# Altium schematic symbol library amplifier.SCHLIB: 59 symbols
Pins are listed as number, name and electrical type; pins without a type are passive.

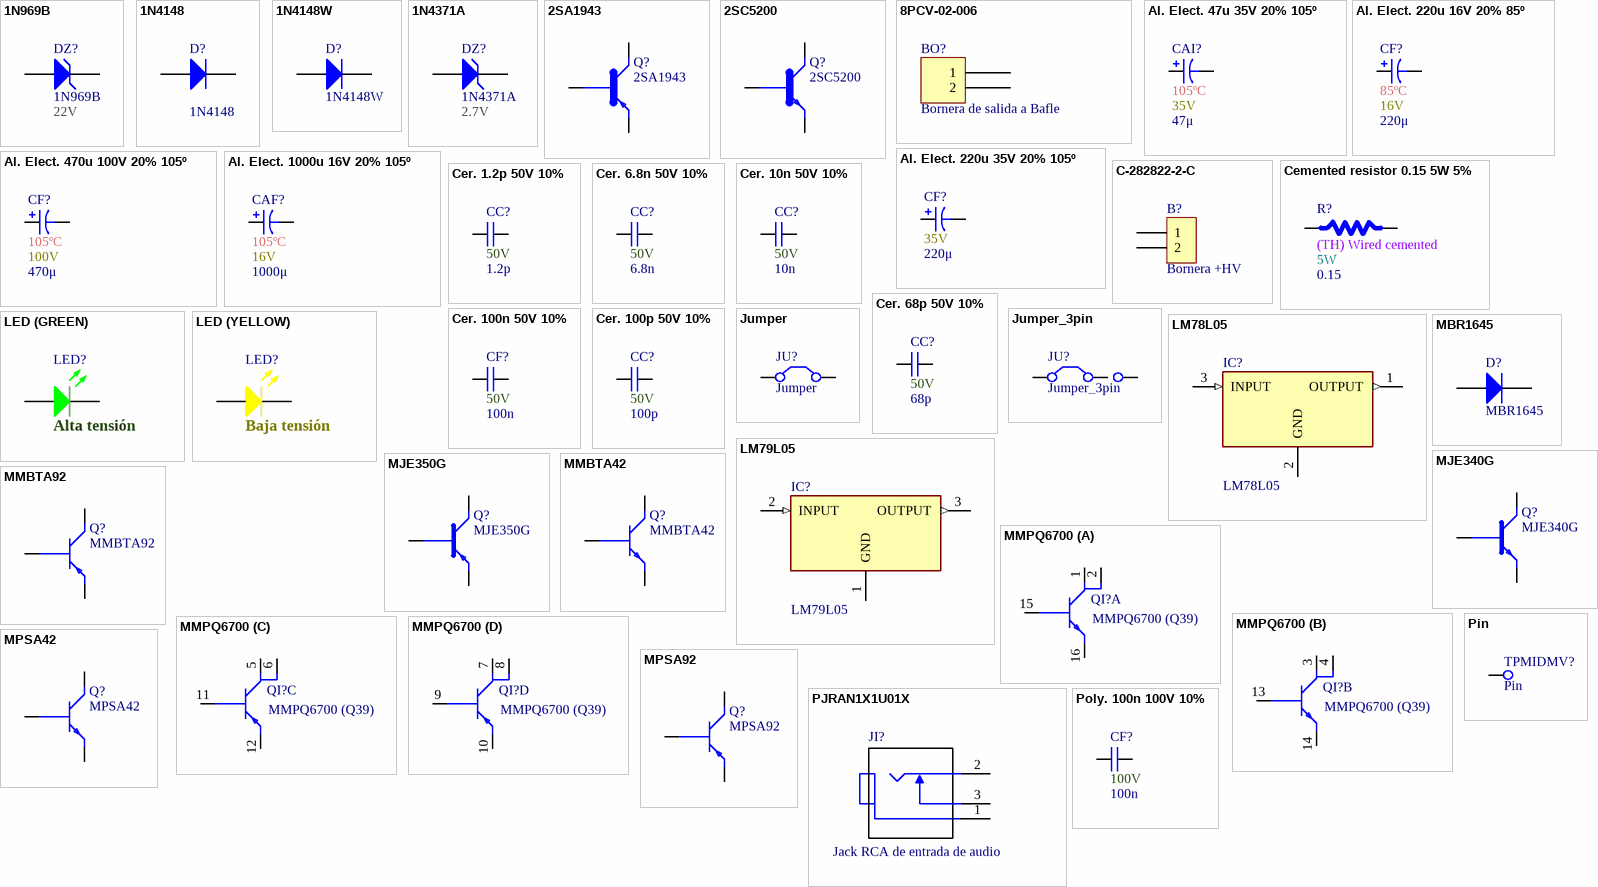
[diagram p0: symbols 1N969B to Poly. 100n 100V 10%]

## 1N969B
designator DZ?  ZV: 22V
Zener Diode, 22V, 500mW; Manufacturer: Microsemi; IZT: 20mA; Published: 8-Jun-2000; LatestRevisionDate: 17-Jul-2002; LatestRevisionNote: Re-released for DXP Platform.; DatasheetDocument: 1997; PackageReference: DO-35; Publisher: Altium Limited; Code_JEDEC: DO-204-AH; ComponentLink2Description: Datasheet; ComponentLink2URL: https://www.microsemi.com/document-portal/doc_download/5906-1n746-759a-4370-4372a-datasheet; PartNumber: 1N969B; Power: 500mW; Supplier: *; Price: *; ComponentLink3Description: Microsemi product information; ComponentLink3URL: https://www.microsemi.com/existing-parts/parts/121290#resources
footprint DO-35-0.3mil (Diode, Axial; Body 3.8 x 1.9 mm (LxDia. max), Lead Dia. 0.53 mm (max))
pins: 1 A, 2 K

## 1N4148
designator D?
FAST SWITCHING DIODE; Manufacturer: ON Semiconductors; Power: 400mW; VR: 71V; IFM: 30mA; ComponentLink1Description: ON Semi. product information; ComponentLink1URL: https://www.onsemi.com/PowerSolutions/product.do?id=1N4148; ComponentLink2Description: Datasheet; ComponentLink2URL: https://www.onsemi.com/pub/Collateral/1N914A-D.pdf; Supplier: *; Price: *; PartNumber: 1N4148
footprint DO-35-0.3mil (Diode, Axial; Body 3.8 x 1.9 mm (LxDia. max), Lead Dia. 0.53 mm (max))
footprint DO-35-0.4mil (Diode, Axial; Body 3.8 x 1.9 mm (LxDia. max), Lead Dia. 0.53 mm (max))
pins: 1 K, 2 A

## 1N4148W
designator D?
SURFACE MOUNT FAST SWITCHING DIODE; Manufacturer: Diodes Incorporated; Power: 400mW; VR: 71V; IFM: 30mA; PartNumber: 1N4148W; ComponentLink1Description: DIODES INC. product information; ComponentLink1URL: https://www.diodes.com/products/discrete/diodes-and-rectifiers/diodes/small-signal-switching-diodes/part/1N4148W; ComponentLink2Description: Datasheet; ComponentLink2URL: https://www.diodes.com/assets/Datasheets/ds30086.pdf; Supplier: *; Price: *
footprint SOD-123 (SMD CASE SOD-123)
pins: 1 K, 2 A

## 1N4371A
designator DZ?  ZV: 2.7V
Zener Diode, 2.7V, 500mW; Manufacturer: Microsemi; IZT: 20mA; Published: 8-Jun-2000; LatestRevisionDate: 17-Jul-2002; LatestRevisionNote: Re-released for DXP Platform.; DatasheetDocument: 1997; PackageReference: DO-35; Publisher: Altium Limited; Code_JEDEC: DO-204-AH; ComponentLink2Description: Datasheet; ComponentLink2URL: https://www.microsemi.com/document-portal/doc_download/5906-1n746-759a-4370-4372a-datasheet; PartNumber: 1N4371A; Power: 500mW; Supplier: *; Price: *; ComponentLink3Description: Microsemi product information; ComponentLink3URL: https://www.microsemi.com/existing-parts/parts/121290#resources
footprint DO-35-0.3mil (Diode, Axial; Body 3.8 x 1.9 mm (LxDia. max), Lead Dia. 0.53 mm (max))
pins: 1 A, 2 K

## 2SA1943
designator Q?
Transistor GP BJT PNP 230V 15A 3-Pin_3+Tab_ TO-264 Tube; Manufacturer: Toshiba; Power: 150W; VCBO: -230V; IC: -15A; PartNumber: 2SA1943; Price: *; ComponentLink1Description: Toshiba product information; ComponentLink1URL: https://toshiba.semicon-storage.com/ap-en/product/bipolar-transistor/bipolar-transistor/detail.2SA1943.html; ComponentLink2Description: Datasheet; ComponentLink2URL: https://toshiba.semicon-storage.com/info/docget.jsp?did=20426&prodName=2SA1943; VCEO: -230V
footprint TO-264-3
pins: 1 B, 2 C, 3 E

## 2SC5200
designator Q?
Transistor GP BJT NPN 230V 15A 3-Pin_3+Tab_ TO-264 Tube; Manufacturer: Toshiba; Power: 150W; Price: *; PartNumber: 2SC5200; ComponentLink1Description: Toshiba product information; ComponentLink1URL: https://toshiba.semicon-storage.com/ap-en/product/bipolar-transistor/bipolar-transistor/detail.2SC5200.html; ComponentLink2Description: Datasheet; ComponentLink2URL: https://toshiba.semicon-storage.com/info/docget.jsp?did=20668&prodName=2SC5200; IC: 15A; VCEO: 230V; VCBO: 230V
footprint TO-264-3
pins: 1 B, 2 C, 3 E

## 8PCV-02-006
designator BO?, comment Bornera de salida a Bafle
TE Barrier Terminal Block, 2P; Current: 30A; Voltage: 600V
footprint TE 8PCV-02-006 (Assembly, Dual Barrier Strip)
pins: 1, 2

## Al. Elect. 47u 35V 20% 105º
designator CAI?  value 47μ  Temperature: 105ºC  Voltage: 35V  (hidden comment: Al. Elect. 47u 35V 20% 105º)
Aluminum Electrolytic Capacitor 47μF 35V 20% 105º; Application: Medium and high voltage type range from 160V-450V used as primary side input filter in power supply, which can be used in general switching power supply, PC power supply and industrial computer power supply,server power supply, AC-DC converter, motor drive circuit DC storage filter, digital audio, digital TV, communication base station, DC-AC inverter, inverter power supply and converters etc; Characteristics: Aluminum Electrolytic Capacitor; Tolerance: 20%; Price: *; Supplier: *; Power: *
footprint Al. Electrolytic 6.3mmx11.0mmx2.5mm (Polarized capacitors, Aluminum Electrolytic Capacitors, 2-Leads, Body 6.3mmx11.0mmx2.5mm)
footprint Al. Electrolytic 6.3mmx11.0mmx2.5mm-CLEAN (Polarized capacitors, Aluminum Electrolytic Capacitors, 2-Leads, Body 6.3mmx11.0mmx2.5mm)
pins: 1, 2

## Al. Elect. 220u 16V 20% 85º
designator CF?  value 220μ  Temperature: 85ºC  Voltage: 16V  (hidden comment: Al. Elect. 220u 16V 20% 85º)
Aluminum Electrolytic Capacitor 220μF 16V 20% 85º; Application: Medium and high voltage type range from 160V-450V used as primary side input filter in power supply, which can be used in general switching power supply, PC power supply and industrial computer power supply,server power supply, AC-DC converter, motor drive circuit DC storage filter, digital audio, digital TV, communication base station, DC-AC inverter, inverter power supply and converters etc; Characteristics: Aluminum Electrolytic Capacitor; Tolerance: 20%; Price: *; Supplier: *; Power: *
footprint Al. Electrolytic 6.3mmx12.0mmx2.5mm-CLEAN (Polarized capacitors, Aluminum Electrolytic Capacitors, 2-Leads, Body 6.3mmx11.0mmx2.5mm)
pins: 1, 2

## Al. Elect. 220u 35V 20% 105º
designator CF?  value 220μ  Voltage: 35V  (hidden comment: Al. Elect. 220u 35V 20% 105º)
Aluminum Electrolytic Capacitor 220μF 35V 20% 105º; Application: Medium and high voltage type range from 160V-450V used as primary side input filter in power supply, which can be used in general switching power supply, PC power supply and industrial computer power supply,server power supply, AC-DC converter, motor drive circuit DC storage filter, digital audio, digital TV, communication base station, DC-AC inverter, inverter power supply and converters etc; Characteristics: Aluminum Electrolytic Capacitor; Tolerance: 20%; Price: *; Supplier: *; Power: *; Temperature: 105ºC
footprint Al. Electrolytic 8.0mmx13.0mmx3.5mm-CLEAN (Polarized capacitors, Aluminum Electrolytic Capacitors, 2-Leads, Body 8.0mmx13.0mmx3.5mm)
pins: 1, 2

## Al. Elect. 470u 100V 20% 105º
designator CF?  value 470μ  Temperature: 105ºC  Voltage: 100V  (hidden comment: Al. Elect. 470u 100V 20% 105º)
Aluminum Electrolytic Capacitor 470μF 100V 20% 105º; Application: Medium and high voltage type range from 160V-450V used as primary side input filter in power supply, which can be used in general switching power supply, PC power supply and industrial computer power supply,server power supply, AC-DC converter, motor drive circuit DC storage filter, digital audio, digital TV, communication base station, DC-AC inverter, inverter power supply and converters etc; Characteristics: Aluminum Electrolytic Capacitor; Tolerance: 20%; Price: *; Supplier: *; Power: *
footprint Al. Electrolytic 16.0mmx33.0mmx7.5mm-CLEAN (Polarized capacitors, Aluminum Electrolytic Capacitors, 2-Leads, Body 16.0mmx33.0mmx7.5mm)
pins: 1, 2

## Al. Elect. 1000u 16V 20% 105º
designator CAF?  value 1000μ  Temperature: 105ºC  Voltage: 16V  (hidden comment: Al. Elect. 1000u 16V 20% 105º)
Aluminum Electrolytic Capacitor 1000μF 16V 20% 105º; Application: Medium and high voltage type range from 160V-450V used as primary side input filter in power supply, which can be used in general switching power supply, PC power supply and industrial computer power supply,server power supply, AC-DC converter, motor drive circuit DC storage filter, digital audio, digital TV, communication base station, DC-AC inverter, inverter power supply and converters etc; Characteristics: Aluminum Electrolytic Capacitor; Tolerance: 20%; Price: *; Supplier: *; Power: *
footprint Al. Electrolytic 10.0mmx17.0mmx5.0mm-CLEAN (Polarized capacitors, Aluminum Electrolytic Capacitors, 2-Leads, Body 10.0mmx17.0mmx5.0mm)
pins: 1, 2

## C-282822-2-C
designator B?, comment Bornera +HV
TERMI-BLOK HEADER,ASSY90 2P - serie 282822 - 5.00mm; Manufacturer: TE Connectivity; partNo: C-282822-2-C; ComponentLink1 Description: Manufacturer; ComponentLink2 Description: Datasheet; NoPins: 02; Created Date: 6 MArch 2017; ComponentLink1URL: http://www.te.com/usa-en/home.html; ComponentLink2URL: http://www.te.com/usa-en/product-282822-2.html
footprint TE-C-282822-2-C-PLUGGED (5.00mm - Open Vertical PCB Header - 02p)
footprint TE-C-282822-2-C (5.00mm - Open Vertical PCB Header - 02p)
pins: 1 (power), 2

## Cemented resistor 0.15 5W 5%
designator R?  value 0.15  Type: (TH) Wired cemented  Power: 5W  (hidden comment: Cemented resistor 0.15 5W 5%)
Cemented resistor 0.15Ω 5% 5W; Tolerance: 5%; Supplier: *; Price: *
footprint Cemented resistor 0.15 5W 5% (Cemented resistor 0.15O 5% 5W)
footprint Cemented resistor generic 5W 5% (Cemented generic resistor 5% 5W)
pins: 1, 2

## Cer. 1.2p 50V 10%
designator CC?  value 1.2p  Voltage: 50V  (hidden comment: Cer. 1.2p 50V 10%)
Ceramic Capacitor 1.2pF 50V 10%; Application: Medium and high voltage type range from 160V-450V used as primary side input filter in power supply, which can be used in general switching power supply, PC power supply and industrial computer power supply,server power supply, AC-DC converter, motor drive circuit DC storage filter, digital audio, digital TV, communication base station, DC-AC inverter, inverter power supply and converters etc; Characteristics: Ceramic Capacitor; Tolerance: 10%; Price: *; Power: *; Supplier: *
footprint Cer. pitch 5.0mm height 5.0mm (Radial ceramic capacitor pitch 5.0mm height 5.0mm)
footprint Cer. pitch 2.5mm height 5.0mm (Radial ceramic capacitor pitch 2.5mm height 5.0mm)
footprint Cer. pitch 5.0mm height 5.5mm (Radial ceramic capacitor pitch 5.0mm height 5.5mm)
footprint Cer. pitch 5.08mm height 6.00mm (Radial ceramic capacitor pitch 5.08mm height 6.0mm)
pins: 1, 2

## Cer. 6.8n 50V 10%
designator CC?  value 6.8n  Voltage: 50V  (hidden comment: Cer. 6.8n 50V 10%)
Ceramic Capacitor 6.8nF 50V 10%; Application: Medium and high voltage type range from 160V-450V used as primary side input filter in power supply, which can be used in general switching power supply, PC power supply and industrial computer power supply,server power supply, AC-DC converter, motor drive circuit DC storage filter, digital audio, digital TV, communication base station, DC-AC inverter, inverter power supply and converters etc; Characteristics: Ceramic Capacitor; Tolerance: 10%; Price: *; Power: *; Supplier: *
footprint Cer. pitch 5.0mm height 5.0mm (Radial ceramic capacitor pitch 5.0mm height 5.0mm)
footprint Cer. pitch 2.5mm height 5.0mm (Radial ceramic capacitor pitch 2.5mm height 5.0mm)
footprint Cer. pitch 5.0mm height 5.5mm (Radial ceramic capacitor pitch 5.0mm height 5.5mm)
footprint Cer. pitch 5.08mm height 6.00mm (Radial ceramic capacitor pitch 5.08mm height 6.0mm)
pins: 1, 2

## Cer. 10n 50V 10%
designator CC?  value 10n  Voltage: 50V  (hidden comment: Cer. 10n 50V 10%)
Ceramic Capacitor 10nF 50V 10%; Application: Medium and high voltage type range from 160V-450V used as primary side input filter in power supply, which can be used in general switching power supply, PC power supply and industrial computer power supply,server power supply, AC-DC converter, motor drive circuit DC storage filter, digital audio, digital TV, communication base station, DC-AC inverter, inverter power supply and converters etc; Characteristics: Ceramic Capacitor; Tolerance: 10%; Price: *; Power: *; Supplier: *
footprint Cer. pitch 5.0mm height 5.0mm (Radial ceramic capacitor pitch 5.0mm height 5.0mm)
footprint Cer. pitch 2.5mm height 5.0mm (Radial ceramic capacitor pitch 2.5mm height 5.0mm)
footprint Cer. pitch 5.0mm height 5.5mm (Radial ceramic capacitor pitch 5.0mm height 5.5mm)
footprint Cer. pitch 5.08mm height 6.00mm (Radial ceramic capacitor pitch 5.08mm height 6.0mm)
pins: 1, 2

## Cer. 68p 50V 10%
designator CC?  value 68p  Voltage: 50V  (hidden comment: Cer. 68p 50V 10%)
Ceramic Capacitor 68pF 50V 10%; Application: Medium and high voltage type range from 160V-450V used as primary side input filter in power supply, which can be used in general switching power supply, PC power supply and industrial computer power supply,server power supply, AC-DC converter, motor drive circuit DC storage filter, digital audio, digital TV, communication base station, DC-AC inverter, inverter power supply and converters etc; Characteristics: Ceramic Capacitor; Tolerance: 10%; Price: *; Power: *; Supplier: *
footprint Cer. pitch 5.0mm height 5.0mm (Radial ceramic capacitor pitch 5.0mm height 5.0mm)
footprint Cer. pitch 2.5mm height 5.0mm (Radial ceramic capacitor pitch 2.5mm height 5.0mm)
footprint Cer. pitch 5.0mm height 5.5mm (Radial ceramic capacitor pitch 5.0mm height 5.5mm)
footprint Cer. pitch 5.08mm height 6.00mm (Radial ceramic capacitor pitch 5.08mm height 6.0mm)
pins: 1, 2

## Cer. 100n 50V 10%
designator CF?  value 100n  Voltage: 50V  (hidden comment: Cer. 100n 50V 10%)
Ceramic Capacitor 100nF 50V 10%; Application: Medium and high voltage type range from 160V-450V used as primary side input filter in power supply, which can be used in general switching power supply, PC power supply and industrial computer power supply,server power supply, AC-DC converter, motor drive circuit DC storage filter, digital audio, digital TV, communication base station, DC-AC inverter, inverter power supply and converters etc; Characteristics: Ceramic Capacitor; Tolerance: 10%; Supplier: *; Price: *; Power: *
footprint Cer. pitch 5.0mm height 5.5mm (Radial ceramic capacitor pitch 5.0mm height 5.5mm)
footprint Cer. pitch 2.5mm height 5.0mm (Radial ceramic capacitor pitch 2.5mm height 5.0mm)
footprint Cer. pitch 5.08mm height 6.00mm (Radial ceramic capacitor pitch 5.08mm height 6.0mm)
pins: 1, 2

## Cer. 100p 50V 10%
designator CC?  value 100p  Voltage: 50V  (hidden comment: Cer. 100p 50V 10%)
Ceramic Capacitor 100pF 50V 10%; Application: Medium and high voltage type range from 160V-450V used as primary side input filter in power supply, which can be used in general switching power supply, PC power supply and industrial computer power supply,server power supply, AC-DC converter, motor drive circuit DC storage filter, digital audio, digital TV, communication base station, DC-AC inverter, inverter power supply and converters etc; Characteristics: Ceramic Capacitor; Tolerance: 10%; Price: *; Power: *; Supplier: *
footprint Cer. pitch 5.0mm height 5.0mm (Radial ceramic capacitor pitch 5.0mm height 5.0mm)
footprint Cer. pitch 2.5mm height 5.0mm (Radial ceramic capacitor pitch 2.5mm height 5.0mm)
footprint Cer. pitch 5.0mm height 5.5mm (Radial ceramic capacitor pitch 5.0mm height 5.5mm)
footprint Cer. pitch 5.08mm height 6.00mm (Radial ceramic capacitor pitch 5.08mm height 6.0mm)
pins: 1, 2

## Jumper
designator JU?
Jumper Wire; Published: 24-Mar-1999; LatestRevisionDate: 17-Jul-2002; LatestRevisionNote: Re-released for DXP Platform.; PackageReference: RAD-0.2; Publisher: Altium Limited; PackageDescription: Radial Cap, Thru-Hole; 2 Leads; 0.2 in Pin Spacing
footprint Jumper 200mil 2 pin header
footprint Jumper 200mil 2 pin
pins: 1 C1, 2 C2

## Jumper_3pin
designator JU?
Jumper Wire; Published: 24-Mar-1999; LatestRevisionDate: 17-Jul-2002; LatestRevisionNote: Re-released for DXP Platform.; PackageReference: RAD-0.2; Publisher: Altium Limited; PackageDescription: Radial Cap, Thru-Hole; 2 Leads; 0.2 in Pin Spacing
footprint Jumper 200mil 3 pin header
footprint Jumper 200mil 3 pin
pins: 1 C1, 2 C2, 3 C3

## LED (GREEN)
designator LED?, comment Alta tensión
Typical LED (GREEN); Publisher: Altium Limited
footprint LED_5MM_GREEN (LED 5mm GREEN)
footprint LED_3MM_GREEN (LED 3mm GREEN)
footprint 0805_LED
footprint 1206_LED
footprint SQ_LED
pins: A, K

## LED (YELLOW)
designator LED?, comment Baja tensión
Typical LED (YELLOW); Publisher: Altium Limited
footprint LED_5MM_YELLOW (LED 5mm YELLOW)
footprint LED_3MM_YELLOW (LED 3mm YELLOW)
footprint 0805_LED
footprint 1206_LED
footprint SQ_LED
pins: A, K

## LM78L05
designator IC?
5V fixed regulator - 100mA; Manufacturer_Part_Number: LM7805; Height: 4.7mm; Power: *; Price: *; Supplier: *
footprint TO-92-1 (TO, Flat Index; 3 In-Line, Axial Leads; Body Dia. 5mm; Leads 0.55 x 0.50 mm (max))
pins: 1 OUTPUT (out), 2 GND, 3 INPUT (in)

## LM79L05
designator IC?
-5V fixed regulator - 100mA; Manufacturer_Part_Number: LM7805; Height: 4.7mm; Power: *; Price: *; Supplier: *
footprint TO-92-1 (TO, Flat Index; 3 In-Line, Axial Leads; Body Dia. 5mm; Leads 0.55 x 0.50 mm (max))
footprint TO-92-2
pins: 1 GND, 2 INPUT (in), 3 OUTPUT (out)

## MBR1645
designator D?
45 V, 16 A SWITCHMODE(TM) Schottky Power Rectifier, 2-Pin TO-220, Pb-Free, Tube; Manufacturer_Name: ON Semiconductor; Manufacturer_Part_Number: MBR1645; ComponentLink1Description: Manufacturer URL; ComponentLink1URL: http://www.onsemi.com/; ComponentLink2Description: Datasheet; ComponentLink2URL: http://www.onsemi.com/pub_link/Collateral/MSR1560-D.PDF; ComponentLink3Description: Package Specification; ComponentLink3URL: http://www.onsemi.com/pub_link/Collateral/221B-04.PDF; Power: *; Price: *; Supplier: *
footprint ONSC-TO-220-2-221B-04 (FM, 2-Leads, Body 10.3x4.85mm, Pitch 5.08mm)
pins: 1 K, 3 A

## MJE340G
designator Q?
Plastic Medium-Power NPN Silicon Transistor, 300 VOLTS, 0.5 AMPERE, 20 WATTS; Manufacturer: ON Semiconductor; VCEO: 300V; IC: 500mA; Power: 20W; PartNumber: MJE340G; ComponentLink1Description: ON semiconductor product information; ComponentLink1URL: https://www.onsemi.com/PowerSolutions/product.do?id=MJE340G; ComponentLink2Description: Datasheet; ComponentLink2URL: https://www.onsemi.com/pub/Collateral/MJE340-D.PDF; Price: *; Supplier: *; VCB: 300V
footprint TO-225 (TO-225 FULL PACKAGE)
pins: 1 E, 2 C, 3 B

## MJE350G
designator Q?
Plastic Medium-Power PNP Silicon Transistor, 300 VOLTS, 0.5 AMPERE, 20 WATTS; Manufacturer: ON Semiconductor; Power: 20W; IC: 500mA; VCEO: 300V; PartNumber: MJE350G; ComponentLink1Description: ON semiconductor product information; ComponentLink1URL: https://www.onsemi.com/PowerSolutions/product.do?id=MJE350G; ComponentLink2Description: Datasheet; ComponentLink2URL: https://www.onsemi.com/pub/Collateral/MJE350-D.PDF; Price: *; Supplier: *; VCB: 300V
footprint TO-225 (TO-225 FULL PACKAGE)
pins: 1 E, 2 C, 3 B

## MMBTA42
designator Q?
High Voltage NPN Bipolar Transistor; Manufacturer: ON Semiconductor; PartNumber: MJE340G; VCEO: 300V; IC: 500mA; Power: 20W; ComponentLink1Description: ON semiconductor product information; ComponentLink1URL: https://www.onsemi.com/PowerSolutions/product.do?id=MMBTA42; ComponentLink2Description: Datasheet; ComponentLink2URL: https://www.onsemi.com/pub/Collateral/PZTA42-D.pdf; Price: *; Supplier: *; VCB: 300V
footprint SOT-23
pins: 1 B, 2 E, 3 C

## MMBTA92
designator Q?
High Voltage PNP Bipolar Transistor; Manufacturer: ON Semiconductor; PartNumber: MJE340G; VCEO: 300V; IC: 500mA; Power: 20W; ComponentLink1Description: ON semiconductor product information; ComponentLink1URL: https://www.onsemi.com/PowerSolutions/product.do?id=MMBTA92; ComponentLink2Description: Datasheet; ComponentLink2URL: https://www.onsemi.com/pub/Collateral/PZTA92-D.pdf; Price: *; Supplier: *; VCB: 300V
footprint SOT-23
pins: 1 B, 2 E, 3 C

## MMPQ6700
designator QI?, comment MMPQ6700 (Q39)
Quad NPN and PNP General-Purpose Amplifier; Manufacturer: ON Semiconductor; Power: 180mW; IC: 200mA; VCEO: 40V; ComponentLink1Description: ON semiconductor product information; ComponentLink1URL: https://www.onsemi.com/PowerSolutions/product.do?id=MMPQ6700; ComponentLink2Description: Datasheet; ComponentLink2URL: https://www.onsemi.com/pub/Collateral/MMPQ6700-D.PDF; PartNumber: MMPQ6700; Price: *; Supplier: *; VCB: 40V
footprint SOIC-16L
part A pins: 1 C1, 2 C1, 15 B1, 16 E1
part B pins: 3 C2, 4 C2, 13 B2, 14 E2
part C pins: 5 C3, 6 C3, 11 B3, 12 E3
part D pins: 7 C4, 8 C4, 9 B4, 10 E4

## MPSA42
designator Q?
High Voltage NPN Bipolar Transistor; Manufacturer: ON Semiconductor; PartNumber: MJE340G; VCEO: 300V; IC: 500mA; Power: 20W; ComponentLink1Description: ON semiconductor product information; ComponentLink1URL: https://www.onsemi.com/PowerSolutions/product.do?id=MPSA42; ComponentLink2Description: Datasheet; ComponentLink2URL: https://www.onsemi.com/pub/Collateral/MPSA42-D.PDF; Price: *; Supplier: *; VCB: 300V
footprint TO-92-1 (TO, Flat Index; 3 In-Line, Axial Leads; Body Dia. 5mm; Leads 0.55 x 0.50 mm (max))
footprint TO-92-2
pins: 1 E, 2 B, 3 C

## MPSA92
designator Q?
High Voltage PNP Bipolar Transistor; Manufacturer: ON Semiconductor; PartNumber: MJE340G; VCEO: 300V; IC: 500mA; Power: 20W; ComponentLink1Description: ON semiconductor product information; ComponentLink1URL: https://www.onsemi.com/PowerSolutions/product.do?id=MPSA92; ComponentLink2Description: Datasheet; ComponentLink2URL: https://www.onsemi.com/pub/Collateral/MPSA92-D.PDF; Price: *; Supplier: *; VCB: 300V
footprint TO-92-1 (TO, Flat Index; 3 In-Line, Axial Leads; Body Dia. 5mm; Leads 0.55 x 0.50 mm (max))
footprint TO-92-2
pins: 1 E, 2 B, 3 C

## Pin
designator TPMIDMV?
Jumper Wire; Published: 24-Mar-1999; LatestRevisionDate: 17-Jul-2002; LatestRevisionNote: Re-released for DXP Platform.; PackageReference: RAD-0.2; Publisher: Altium Limited; PackageDescription: Radial Cap, Thru-Hole; 2 Leads; 0.2 in Pin Spacing
footprint Jumper 200mil 1 pin
pins: 1 C1

## PJRAN1X1U01X
designator JI?, comment Jack RCA de entrada de audio
Conn Phono Jack F 3 POS Solder RA Thru-Hole 3 Terminal 1 Port; MP: PJRAN1X1U01X; MF: Switchcraft; Package: None; Price: None; Availability: Unavailable; SnapEDA_Link: https://www.snapeda.com/parts/PJRAN1X1U01X/Switchcraft%20Inc./view-part/?ref=snap; Value: *
footprint *SWITCHCRAFT_PJRAN1X1U01X
pins: 1, 2, 3

## Poly. 100n 100V 10%
designator CF?  value 100n  Voltage: 100V  (hidden comment: Poly. 100n 100V 10%)
Polyester Capacitor 100nF 100V 10%; Application: Medium and high voltage type range from 160V-450V used as primary side input filter in power supply, which can be used in general switching power supply, PC power supply and industrial computer power supply,server power supply, AC-DC converter, motor drive circuit DC storage filter, digital audio, digital TV, communication base station, DC-AC inverter, inverter power supply and converters etc; Characteristics: Polyester Capacitor; Tolerance: 10%; Supplier: *; Price: *; Power: *
footprint Cer. pitch 5.0mm height 5.5mm (Radial ceramic capacitor pitch 5.0mm height 5.5mm)
footprint Cer. pitch 2.5mm height 5.0mm (Radial ceramic capacitor pitch 2.5mm height 5.0mm)
footprint Cer. pitch 5.08mm height 6.00mm (Radial ceramic capacitor pitch 5.08mm height 6.0mm)
footprint Cer. pitch 5.0mm height 6.6mm (Radial ceramic capacitor pitch 5.0mm height 6.6mm)
pins: 1, 2

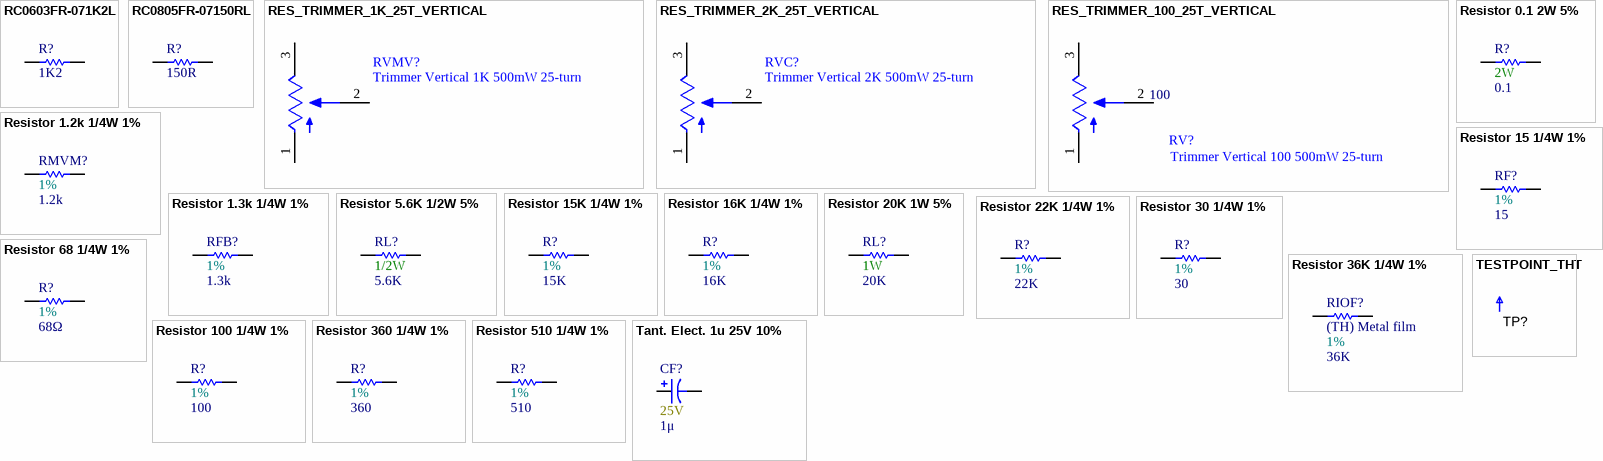
[diagram p1: symbols RC0603FR-071K2L to TESTPOINT_THT]

## RC0603FR-071K2L
designator R?, comment 1K2
RES 1K2 SM0603 YAGEO RC_L; Manufacturer Part Number: RC0603FR-071K2L; Power (Watts): 0.1; Resistance (Ohms): 1200; Tolerance (%): 1; Category: Resistor; Manufacturer: Yageo; Package: 0603; Value: 1K2; Supplier Part Number 1: 9238492; Supplier 1: Farnell; ComponentLink1URL: http://www.yageo.com; ComponentLink1Description: Manufacturer Website; Supplier 2: Digi-Key; Supplier Part Number 2: 311-1.20KHRCT-ND
footprint RES_SM0603_YAGEORC_N (Resistor, Yageo RC_L, SM0603, IPC Medium Density)
pins: 1, 2

## RC0805FR-07150RL
designator R?, comment 150R
RES 150R SM0805 YAGEO RC_L; Manufacturer Part Number: RC0805FR-07150RL; Power (Watts): 0.125; Resistance (Ohms): 150; Tolerance (%): 1; Category: Resistor; Manufacturer: Yageo; Package: 0805; Value: 150R; Supplier Part Number 1: 9237380; Supplier 1: Farnell; ComponentLink1Description: Manufacturer Website; ComponentLink1URL: http://www.yageo.com; Supplier 2: Digi-Key; Supplier Part Number 2: 311-150CRCT-ND
footprint RES_SM0805_YAGEORC_N (Resistor, Yageo RC_L, SM0805, IPC Medium Density)
pins: 1, 2

## RES_TRIMMER_1K_25T_VERTICAL
designator RVMV?, comment Trimmer Vertical 1K 500mW 25-turn
Tolerance: ±10%; Ratings: 1/2W; ±100ppm/°C; Material: Cermet; Supplier: *; Power: *; Price: *; value: 1k
footprint POT_3296W (3296 - 3/8 ” Square Trimpot® Trimming Potentiometer)
pins: 1 A, 2 B, 3 C

## RES_TRIMMER_2K_25T_VERTICAL
designator RVC?, comment Trimmer Vertical 2K 500mW 25-turn
Tolerance: ±10%; Ratings: 1/2W; ±100ppm/°C; Material: Cermet; Supplier: *; Power: *; Price: *; value: 2k
footprint POT_3296W (3296 - 3/8 ” Square Trimpot® Trimming Potentiometer)
pins: 1 A, 2 B, 3 C

## RES_TRIMMER_100_25T_VERTICAL
designator RV?, comment Trimmer Vertical 100 500mW 25-turn  value 100
Tolerance: ±10%; Ratings: 1/2W; ±100ppm/°C; Material: Cermet; Supplier: *; Power: *; Price: *
footprint POT_3296W (3296 - 3/8 ” Square Trimpot® Trimming Potentiometer)
pins: 1 A, 2 B, 3 C

## Resistor 0.1 2W 5%
designator R?  value 0.1  Power: 2W  (hidden comment: Resistor 0.1 2W 5%)
Resistor 0.1Ω 2W 5%; Tolerance: 5%; Price: *; Supplier: *; Type: (TH) Carbon film
footprint AXIAL-0.6-E24-2W-0.1 (Axial Device, Thru-Hole; 2 Leads; 0.6 in Pin Spacing)
pins: 1, 2

## Resistor 1.2k 1/4W 1%
designator RMVM?  value 1.2k  Tolerance: 1%  (hidden comment: Resistor 1.2k 1/4W 1%)
Resistor 1.2kΩ 1/4W 1%; Power: 1/4W; Price: *; Supplier: *; Type: (TH) Metal film
footprint AXIAL-0.4-GEN-0_25W (Axial Device, Thru-Hole; 2 Leads; 0.4 in Pin Spacing)
footprint AXIAL-0.3-GEN-0_25W (Axial Device, Thru-Hole; 2 Leads; 0.3 in Pin Spacing)
footprint AXIAL-0.5-GEN-0_25W (Axial Device, Thru-Hole; 2 Leads; 0.5 in Pin Spacing)
footprint AXIAL-0.6-GEN-0_25W (Axial Device, Thru-Hole; 2 Leads; 0.6 in Pin Spacing)
footprint AXIAL-0.4-E24-0_25W-1.2k-1% (Axial Device, Thru-Hole; 2 Leads; 0.4 in Pin Spacing)
pins: 1, 2

## Resistor 1.3k 1/4W 1%
designator RFB?  value 1.3k  Tolerance: 1%  (hidden comment: Resistor 1.3k 1/4W 1%)
Resistor 1.3kΩ 1/4W 1%; Power: 1/4W; Price: *; Supplier: *; Type: (TH) Metal film
footprint AXIAL-0.4-GEN-0_25W (Axial Device, Thru-Hole; 2 Leads; 0.4 in Pin Spacing)
footprint AXIAL-0.3-GEN-0_25W (Axial Device, Thru-Hole; 2 Leads; 0.3 in Pin Spacing)
footprint AXIAL-0.5-GEN-0_25W (Axial Device, Thru-Hole; 2 Leads; 0.5 in Pin Spacing)
footprint AXIAL-0.6-GEN-0_25W (Axial Device, Thru-Hole; 2 Leads; 0.6 in Pin Spacing)
footprint AXIAL-0.4-E24-0_25W-1.3k-1% (Axial Device, Thru-Hole; 2 Leads; 0.4 in Pin Spacing)
pins: 1, 2

## Resistor 5.6K 1/2W 5%
designator RL?  value 5.6K  Power: 1/2W  (hidden comment: Resistor 5.6K 1/2W 5%)
Resistor 5.6KΩ 1/2W 5%; Tolerance: 5%; Price: *; Type: (TH) Metal film; Supplier: *
footprint AXIAL-0.4-GEN-0_25W (Axial Device, Thru-Hole; 2 Leads; 0.4 in Pin Spacing)
footprint AXIAL-0.3-GEN-0_25W (Axial Device, Thru-Hole; 2 Leads; 0.3 in Pin Spacing)
footprint AXIAL-0.5-GEN-0_25W (Axial Device, Thru-Hole; 2 Leads; 0.5 in Pin Spacing)
footprint AXIAL-0.6-GEN-0_25W (Axial Device, Thru-Hole; 2 Leads; 0.6 in Pin Spacing)
footprint AXIAL-0.5-E24-0_5W-5.6K (Axial Device, Thru-Hole; 2 Leads; 0.5 in Pin Spacing)
pins: 1, 2

## Resistor 15 1/4W 1%
designator RF?  value 15  Tolerance: 1%  (hidden comment: Resistor 15 1/4W 1%)
Resistor 15Ω 1/4W 1%; Power: 1/4W; Price: *; Supplier: *; Type: (TH) Metal film
footprint AXIAL-0.4-GEN-0_25W (Axial Device, Thru-Hole; 2 Leads; 0.4 in Pin Spacing)
footprint AXIAL-0.3-GEN-0_25W (Axial Device, Thru-Hole; 2 Leads; 0.3 in Pin Spacing)
footprint AXIAL-0.5-GEN-0_25W (Axial Device, Thru-Hole; 2 Leads; 0.5 in Pin Spacing)
footprint AXIAL-0.6-GEN-0_25W (Axial Device, Thru-Hole; 2 Leads; 0.6 in Pin Spacing)
footprint AXIAL-0.4-E24-0_25W-15-1% (Axial Device, Thru-Hole; 2 Leads; 0.4 in Pin Spacing)
pins: 1, 2

## Resistor 15K 1/4W 1%
designator R?  value 15K  Tolerance: 1%  (hidden comment: Resistor 15K 1/4W 1%)
Resistor 15KΩ 1/4W 1%; Power: 1/4W; Price: *; Supplier: *; Type: (TH) Metal film
footprint AXIAL-0.4-GEN-0_25W (Axial Device, Thru-Hole; 2 Leads; 0.4 in Pin Spacing)
footprint AXIAL-0.3-GEN-0_25W (Axial Device, Thru-Hole; 2 Leads; 0.3 in Pin Spacing)
footprint AXIAL-0.5-GEN-0_25W (Axial Device, Thru-Hole; 2 Leads; 0.5 in Pin Spacing)
footprint AXIAL-0.6-GEN-0_25W (Axial Device, Thru-Hole; 2 Leads; 0.6 in Pin Spacing)
footprint AXIAL-0.4-E24-0_25W-15k-1% (Axial Device, Thru-Hole; 2 Leads; 0.4 in Pin Spacing)
pins: 1, 2

## Resistor 16K 1/4W 1%
designator R?  value 16K  Tolerance: 1%  (hidden comment: Resistor 16K 1/4W 1%)
Resistor 16KΩ 1/4W 1%; Price: *; Supplier: *; Type: (TH) Metal film; Power: 1/4W
footprint AXIAL-0.4-GEN-0_25W (Axial Device, Thru-Hole; 2 Leads; 0.4 in Pin Spacing)
footprint AXIAL-0.3-GEN-0_25W (Axial Device, Thru-Hole; 2 Leads; 0.3 in Pin Spacing)
footprint AXIAL-0.5-GEN-0_25W (Axial Device, Thru-Hole; 2 Leads; 0.5 in Pin Spacing)
footprint AXIAL-0.6-GEN-0_25W (Axial Device, Thru-Hole; 2 Leads; 0.6 in Pin Spacing)
footprint AXIAL-0.4-E24-0_25W-16k-1% (Axial Device, Thru-Hole; 2 Leads; 0.4 in Pin Spacing)
pins: 1, 2

## Resistor 20K 1W 5%
designator RL?  value 20K  Power: 1W  (hidden comment: Resistor 20K 1W 5%)
Resistor 20KΩ 1W 5%; Tolerance: 5%; Price: *; Supplier: *; Type: (TH) Carbon film
footprint AXIAL-0.6-E24-1W-20K (Axial Device, Thru-Hole; 2 Leads; 0.6 in Pin Spacing)
pins: 1, 2

## Resistor 22K 1/4W 1%
designator R?  value 22K  Tolerance: 1%  (hidden comment: Resistor 22K 1/4W 1%)
Resistor 22KΩ 1/4W 1%; Price: *; Supplier: *; Type: (TH) Metal film; Power: 1/4W
footprint AXIAL-0.4-GEN-0_25W (Axial Device, Thru-Hole; 2 Leads; 0.4 in Pin Spacing)
footprint AXIAL-0.3-GEN-0_25W (Axial Device, Thru-Hole; 2 Leads; 0.3 in Pin Spacing)
footprint AXIAL-0.5-GEN-0_25W (Axial Device, Thru-Hole; 2 Leads; 0.5 in Pin Spacing)
footprint AXIAL-0.6-GEN-0_25W (Axial Device, Thru-Hole; 2 Leads; 0.6 in Pin Spacing)
footprint AXIAL-0.4-E24-0_25W-22k-1% (Axial Device, Thru-Hole; 2 Leads; 0.4 in Pin Spacing)
pins: 1, 2

## Resistor 30 1/4W 1%
designator R?  value 30  Tolerance: 1%  (hidden comment: Resistor 30 1/4W 1%)
Resistor 30Ω 1/4W 1%; Power: 1/4W; Price: *; Supplier: *; Type: (TH) Metal film
footprint AXIAL-0.4-GEN-0_25W (Axial Device, Thru-Hole; 2 Leads; 0.4 in Pin Spacing)
footprint AXIAL-0.3-GEN-0_25W (Axial Device, Thru-Hole; 2 Leads; 0.3 in Pin Spacing)
footprint AXIAL-0.5-GEN-0_25W (Axial Device, Thru-Hole; 2 Leads; 0.5 in Pin Spacing)
footprint AXIAL-0.6-GEN-0_25W (Axial Device, Thru-Hole; 2 Leads; 0.6 in Pin Spacing)
footprint AXIAL-0.4-E24-0_25W-30-1% (Axial Device, Thru-Hole; 2 Leads; 0.4 in Pin Spacing)
pins: 1, 2

## Resistor 36K 1/4W 1%
designator RIOF?  value 36K  Type: (TH) Metal film  Tolerance: 1%  (hidden comment: Resistor 36K 1/4W 1%)
Resistor 36KΩ 1/4W 1%; Power: 1/4W; Price: *; Supplier: *
footprint AXIAL-0.4-GEN-0_25W (Axial Device, Thru-Hole; 2 Leads; 0.4 in Pin Spacing)
footprint AXIAL-0.3-GEN-0_25W (Axial Device, Thru-Hole; 2 Leads; 0.3 in Pin Spacing)
footprint AXIAL-0.5-GEN-0_25W (Axial Device, Thru-Hole; 2 Leads; 0.5 in Pin Spacing)
footprint AXIAL-0.6-GEN-0_25W (Axial Device, Thru-Hole; 2 Leads; 0.6 in Pin Spacing)
footprint AXIAL-0.4-E24-0_25W-36k-1% (Axial Device, Thru-Hole; 2 Leads; 0.4 in Pin Spacing)
pins: 1, 2

## Resistor 68 1/4W 1%
designator R?  value 68Ω  Tolerance: 1%  (hidden comment: Resistor 68 1/4W 1%)
Resistor 68Ω 1/4W 1%; Power: 1/4W; Price: *; Type: (TH) Metal film; Supplier: *
footprint AXIAL-0.4-GEN-0_25W (Axial Device, Thru-Hole; 2 Leads; 0.4 in Pin Spacing)
footprint AXIAL-0.3-GEN-0_25W (Axial Device, Thru-Hole; 2 Leads; 0.3 in Pin Spacing)
footprint AXIAL-0.5-GEN-0_25W (Axial Device, Thru-Hole; 2 Leads; 0.5 in Pin Spacing)
footprint AXIAL-0.6-GEN-0_25W (Axial Device, Thru-Hole; 2 Leads; 0.6 in Pin Spacing)
footprint AXIAL-0.4-E24-0_25W-68-1% (Axial Device, Thru-Hole; 2 Leads; 0.4 in Pin Spacing)
pins: 1, 2

## Resistor 100 1/4W 1%
designator R?  value 100  Tolerance: 1%  (hidden comment: Resistor 100 1/4W 1%)
Resistor 100Ω 1/4W 1%; Power: 1/4W; Price: *; Supplier: *; Type: (TH) Metal film
footprint AXIAL-0.4-GEN-0_25W (Axial Device, Thru-Hole; 2 Leads; 0.4 in Pin Spacing)
footprint AXIAL-0.3-GEN-0_25W (Axial Device, Thru-Hole; 2 Leads; 0.3 in Pin Spacing)
footprint AXIAL-0.5-GEN-0_25W (Axial Device, Thru-Hole; 2 Leads; 0.5 in Pin Spacing)
footprint AXIAL-0.6-GEN-0_25W (Axial Device, Thru-Hole; 2 Leads; 0.6 in Pin Spacing)
footprint AXIAL-0.4-E24-0_25W-100-1% (Axial Device, Thru-Hole; 2 Leads; 0.4 in Pin Spacing)
pins: 1, 2

## Resistor 360 1/4W 1%
designator R?  value 360  Tolerance: 1%  (hidden comment: Resistor 360 1/4W 1%)
Resistor 360Ω 1/4W 1%; Power: 1/4W; Price: *; Supplier: *; Type: (TH) Metal film
footprint AXIAL-0.3-GEN-0_25W (Axial Device, Thru-Hole; 2 Leads; 0.3 in Pin Spacing)
footprint AXIAL-0.5-GEN-0_25W (Axial Device, Thru-Hole; 2 Leads; 0.5 in Pin Spacing)
footprint AXIAL-0.6-GEN-0_25W (Axial Device, Thru-Hole; 2 Leads; 0.6 in Pin Spacing)
footprint AXIAL-0.4-E24-0_25W-360-1% (Axial Device, Thru-Hole; 2 Leads; 0.4 in Pin Spacing)
pins: 1, 2

## Resistor 510 1/4W 1%
designator R?  value 510  Tolerance: 1%  (hidden comment: Resistor 510 1/4W 1%)
Resistor 510Ω 1/4W 1%; Power: 1/4W; Price: *; Supplier: *; Type: (TH) Metal film
footprint AXIAL-0.4-GEN-0_25W (Axial Device, Thru-Hole; 2 Leads; 0.4 in Pin Spacing)
footprint AXIAL-0.3-GEN-0_25W (Axial Device, Thru-Hole; 2 Leads; 0.3 in Pin Spacing)
footprint AXIAL-0.5-GEN-0_25W (Axial Device, Thru-Hole; 2 Leads; 0.5 in Pin Spacing)
footprint AXIAL-0.6-GEN-0_25W (Axial Device, Thru-Hole; 2 Leads; 0.6 in Pin Spacing)
footprint AXIAL-0.4-E24-0_25W-510-1% (Axial Device, Thru-Hole; 2 Leads; 0.4 in Pin Spacing)
pins: 1, 2

## Tant. Elect. 1u 25V 10%
designator CF?  value 1μ  Voltage: 25V  (hidden comment: Tant. Elect. 1u 25V 10%)
Tantalum Electrolytic Capacitor 1μF 25V 10%; Application: Medium and high voltage type range from 160V-450V used as primary side input filter in power supply, which can be used in general switching power supply, PC power supply and industrial computer power supply,server power supply, AC-DC converter, motor drive circuit DC storage filter, digital audio, digital TV, communication base station, DC-AC inverter, inverter power supply and converters etc; Characteristics: Tantalum Electrolytic Capacitor; Tolerance: 10%; Temperature: *; Price: *; Supplier: *; Power: *
footprint Tantalum Electrolytic 4.5mmx8.0mmx0.254mm-CLEAN (Polarized capacitors, Tantalum Electrolytic Capacitors, 2-Leads, Body 4.5mmx8.0mmx0.254mm)
pins: 1, 2

## TESTPOINT_THT
designator TP?  (value not drawn)
Test Point PCB mount Multi-purpose Black; Manufacturer 1: Keystone Electronics; Manufacturer Part Number 1: 5014; PBL Part Number: 3100-xxx; Description 1: TEST POINT PC MULTI PURPOSE YEL; Supplier 1: Digi-Key; Supplier Part Number 1: 5014K-ND; Mounting Type: 0.063" (1.600mm) Hole Diameter; Material: Base, Nylon 46, UL 94V-0
footprint TP-THT-MULTI (Thru-hole test point loop)
pins: 1